# EAGLE library part 00SPEEDY_ER14.5_SMD_12PIN (library Wurth Electronics Midcom Inc V1-0)
Package Style: Speedy ER14.5 Mounting: SMD Pins: 12 pins Bobbin: 070-4477 Best pinouts for production vary per application. Please contact Wurth Electronics Midcom, Inc. for assistance with your custom design. Website: Wurth Electronics Midcom <http://www.we-online.com/midcom> Contact us Wurth Electronics Midcom, Inc. 121 Airport Dr. Watertown, SD 57201 Phone: (605) 886-4385 Fax: (605) 886-4486 E-Mail: midcom@we-online.com
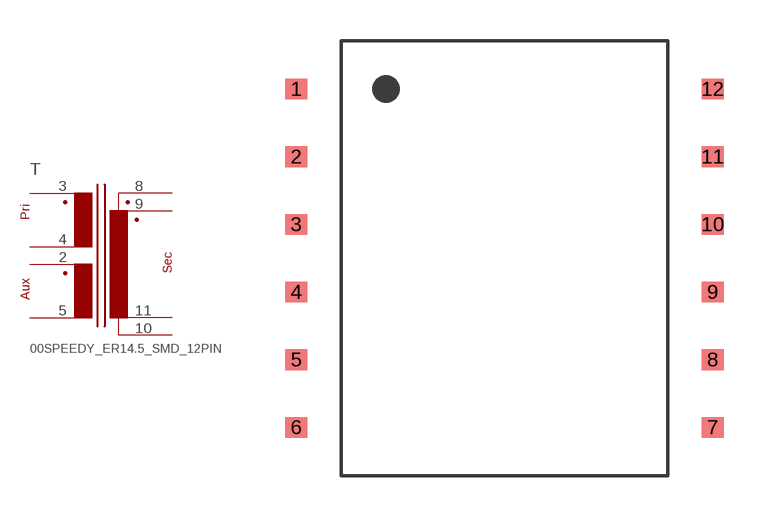
[diagram p127: symbol with the pads of 00SPEEDY_ER14.5_SMD_12PIN; footprint 00SPEEDY_ER14.5_SMD_12PIN]

Designator prefix T

## 00SPEEDY_ER14.5_SMD_12PIN  [00SPEEDY_ER14.5_SMD_12PIN]
2  3  pas
3  1  pas
4  2  pas
5  4  pas
8  5  pas
9  7  pas
10  6  pas
11  8  pas

## Footprint 00SPEEDY_ER14.5_SMD_12PIN (pad centres in mm)
Package Style: Speedy ER14.5 Mounting: SMD Pins: 12 pins Bobbin: 070-4477
smd 0.813 x 0.762: 1 -7.658,6.223; 2 -7.658,3.734; 3 -7.658,1.245; 4 -7.658,-1.245; 5 -7.658,-3.734; 6 -7.658,-6.223; 7 7.658,-6.223; 8 7.658,-3.734; 9 7.658,-1.245; 10 7.658,1.245; 11 7.658,3.734; 12 7.658,6.223